# Altium integrated library Iot_Flatform_lib.IntLib: 1 symbol
Pins are listed as number, name and electrical type; pins without a type are passive.

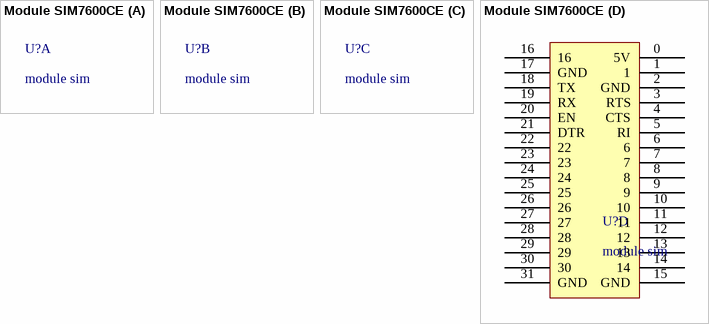
[diagram p0: symbol Module SIM7600CE]

## Module SIM7600CE
designator U?, comment module sim
footprint SIM7600CE
part D pins: 0 5V, 1, 2 GND, 3 RTS, 4 CTS, 5 RI, 6, 7, 8, 9, 10, 11, 12, 13, 14, 15 GND, 16, 17 GND, 18 TX, 19 RX, 20 EN, 21 DTR, 22, 23, 24, 25, 26, 27, 28, 29, 30, 31 GND